# EAGLE library part 4053 (library jason_eagle6)
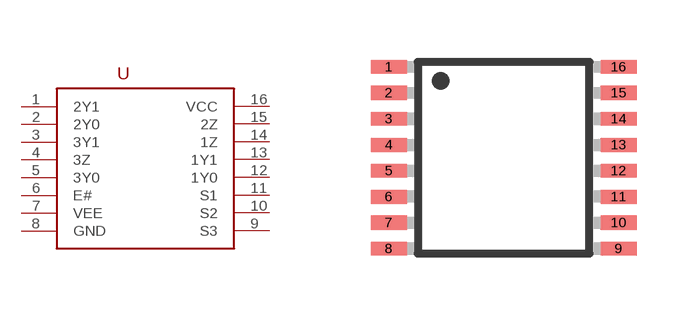
[diagram p70: symbol with the pads of TSSOP16; footprint TSSOP16]

Designator prefix -

## 4053  [TSSOP16]
1  2Y1
2  2Y0
3  3Y1
4  3Z
5  3Y0
6  E#
7  VEE
8  GND
9  S3
10  S2
11  S1
12  1Y0
13  1Y1
14  1Z
15  2Z
16  VCC

## Footprint TSSOP16 (pad centres in mm)
16-Lead Thin Shrink Small Outline Package [TSSOP] (RU-16) Source: 8x ADG1408_1409.pdf
smd 0.9 x 0.35: 1 -2.875,2.275; 2 -2.875,1.625; 3 -2.875,0.975; 4 -2.875,0.325; 5 -2.875,-0.325; 6 -2.875,-0.975; 7 -2.875,-1.625; 8 -2.875,-2.275; 9 2.875,-2.275; 10 2.875,-1.625; 11 2.875,-0.975; 12 2.875,-0.325; 13 2.875,0.325; 14 2.875,0.975; 15 2.875,1.625; 16 2.875,2.275